# EAGLE library part ADSP-BF524 (library sjg-analog)
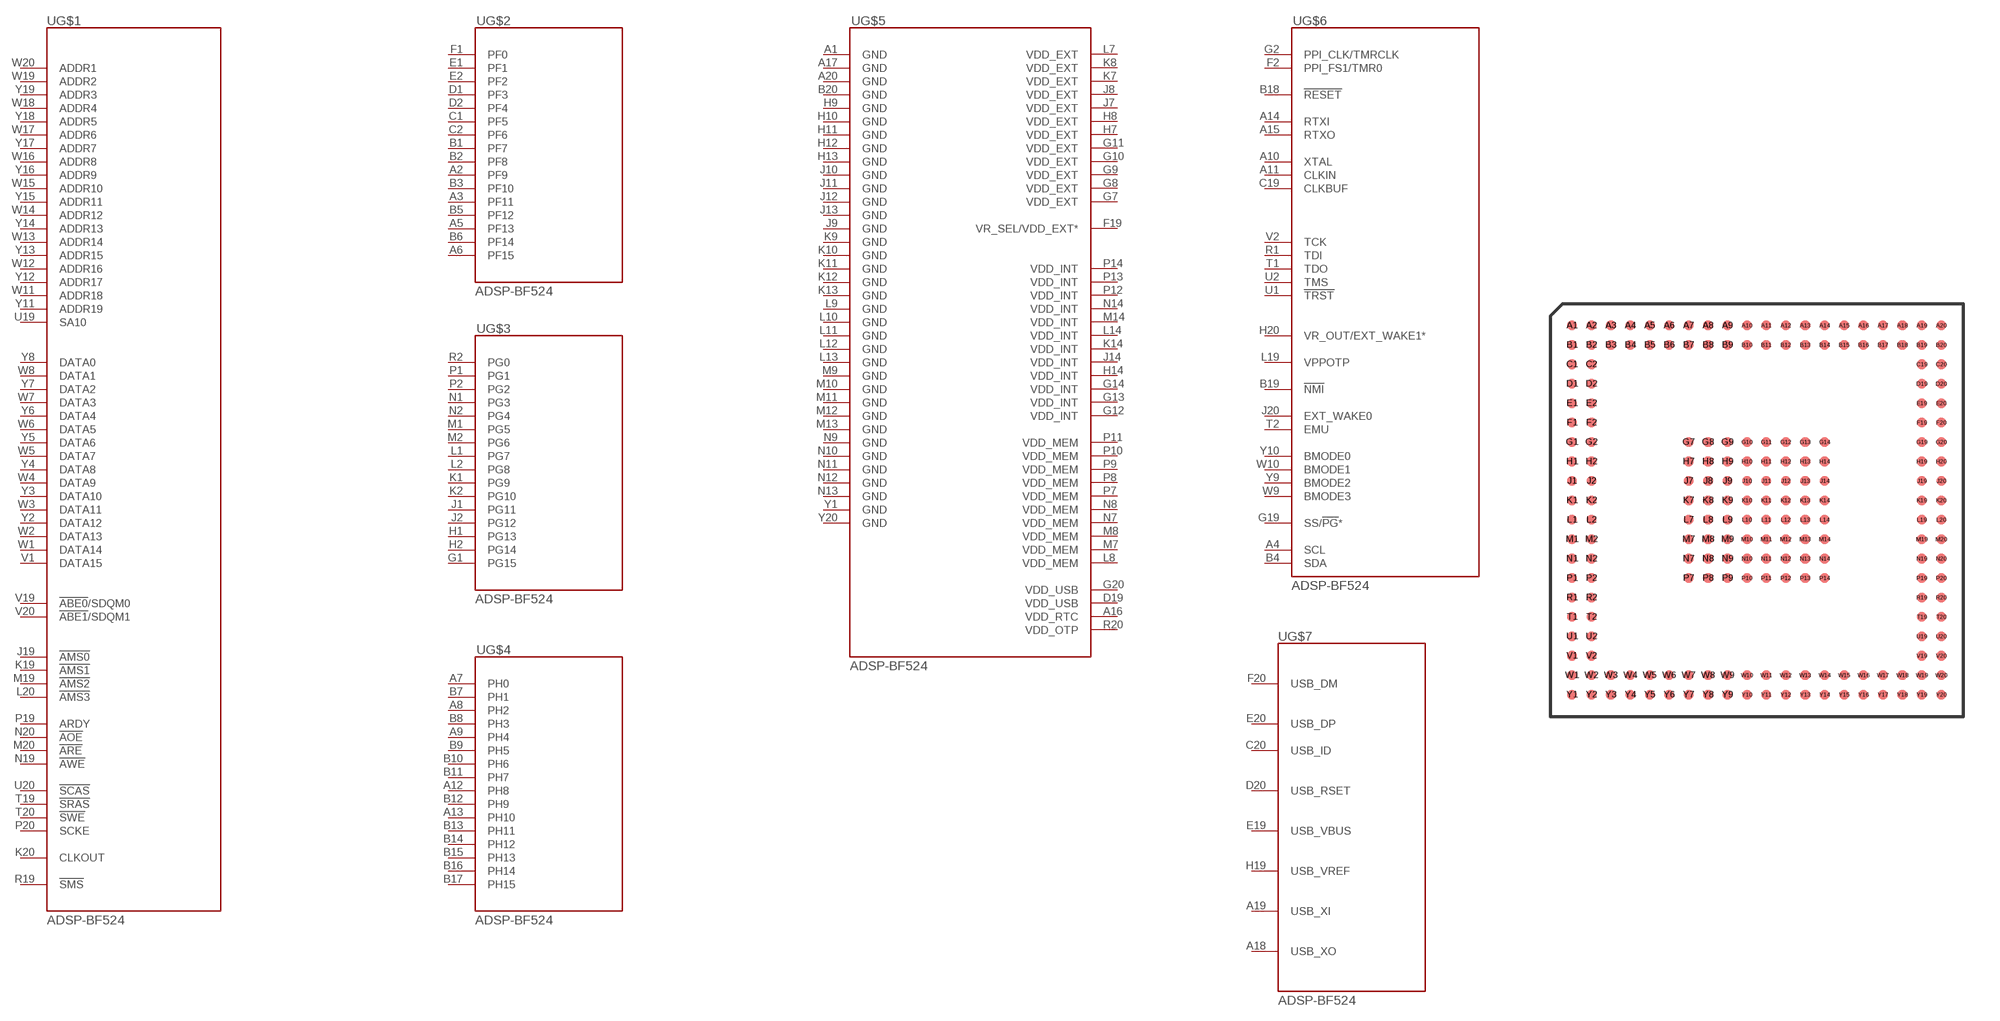
[diagram p2: symbol with the pads of ADSP-BF533; footprint ADSP-BF533]

Designator prefix -; gates G$1=ADSP-BF524-MEM G$2=ADSP-BF524-PORTF G$3=ADSP-BF524-PORTG G$4=ADSP-BF524-PORTH G$5=ADSP-BF524-POWER G$6=ADSP-BF524-SYSTEM G$7=ADSP-BF524-USB

## ADSP-BF524BGA208  [ADSP-BF533]
A1  G$5:GND
A2  G$2:PF9
A3  G$2:PF11
A4  G$6:SCL
A5  G$2:PF13
A6  G$2:PF15
A7  G$4:PH0
A8  G$4:PH2
A9  G$4:PH4
A10  G$6:XTAL
A11  G$6:CLKIN
A12  G$4:PH8
A13  G$4:PH10
A14  G$6:RTXI
A15  G$6:RTXO
A16  G$5:VDD_RTC
A17  G$5:GND
A18  G$7:USB_XO
A19  G$7:USB_XI
A20  G$5:GND
B1  G$2:PF7
B2  G$2:PF8
B3  G$2:PF10
B4  G$6:SDA
B5  G$2:PF12
B6  G$2:PF14
B7  G$4:PH1
B8  G$4:PH3
B9  G$4:PH5
B10  G$4:PH6
B11  G$4:PH7
B12  G$4:PH9
B13  G$4:PH11
B14  G$4:PH12
B15  G$4:PH13
B16  G$4:PH14
B17  G$4:PH15
B18  G$6:!RESET!
B19  G$6:!NMI!
B20  G$5:GND
C1  G$2:PF5
C2  G$2:PF6
C19  G$6:CLKBUF
C20  G$7:USB_ID
D1  G$2:PF3
D2  G$2:PF4
D19  G$5:VDD_USB
D20  G$7:USB_RSET
E1  G$2:PF1
E2  G$2:PF2
E19  G$7:USB_VBUS
E20  G$7:USB_DP
F1  G$2:PF0
F2  G$6:PPI_FS1/TMR0
F19  G$5:VR_SEL/VDD_EXT*
F20  G$7:USB_DM
G1  G$3:PG15
G2  G$6:PPI_CLK/TMRCLK
G7  G$5:VDD_EXT
G8  G$5:VDD_EXT
G9  G$5:VDD_EXT
G10  G$5:VDD_EXT
G11  G$5:VDD_EXT
G12  G$5:VDD_INT
G13  G$5:VDD_INT
G14  G$5:VDD_INT
G19  G$6:SS/!PG!*
G20  G$5:VDD_USB
H1  G$3:PG13
H2  G$3:PG14
H7  G$5:VDD_EXT
H8  G$5:VDD_EXT
H9  G$5:GND
H10  G$5:GND
H11  G$5:GND
H12  G$5:GND
H13  G$5:GND
H14  G$5:VDD_INT
H19  G$7:USB_VREF
H20  G$6:VR_OUT/EXT_WAKE1*
J1  G$3:PG11
J2  G$3:PG12
J7  G$5:VDD_EXT
J8  G$5:VDD_EXT
J9  G$5:GND
J10  G$5:GND
J11  G$5:GND
J12  G$5:GND
J13  G$5:GND
J14  G$5:VDD_INT
J19  G$1:!AMS0!
J20  G$6:EXT_WAKE0
K1  G$3:PG9
K2  G$3:PG10
K7  G$5:VDD_EXT
K8  G$5:VDD_EXT
K9  G$5:GND
K10  G$5:GND
K11  G$5:GND
K12  G$5:GND
K13  G$5:GND
K14  G$5:VDD_INT
K19  G$1:!AMS1!
K20  G$1:CLKOUT
L1  G$3:PG7
L2  G$3:PG8
L7  G$5:VDD_EXT
L8  G$5:VDD_MEM
L9  G$5:GND
L10  G$5:GND
L11  G$5:GND
L12  G$5:GND
L13  G$5:GND
L14  G$5:VDD_INT
L19  G$6:VPPOTP
L20  G$1:!AMS3!
M1  G$3:PG5
M2  G$3:PG6
M7  G$5:VDD_MEM
M8  G$5:VDD_MEM
M9  G$5:GND
M10  G$5:GND
M11  G$5:GND
M12  G$5:GND
M13  G$5:GND
M14  G$5:VDD_INT
M19  G$1:!AMS2!
M20  G$1:!ARE!
N1  G$3:PG3
N2  G$3:PG4
N7  G$5:VDD_MEM
N8  G$5:VDD_MEM
N9  G$5:GND
N10  G$5:GND
N11  G$5:GND
N12  G$5:GND
N13  G$5:GND
N14  G$5:VDD_INT
N19  G$1:!AWE!
N20  G$1:!AOE!
P1  G$3:PG1
P2  G$3:PG2
P7  G$5:VDD_MEM
P8  G$5:VDD_MEM
P9  G$5:VDD_MEM
P10  G$5:VDD_MEM
P11  G$5:VDD_MEM
P12  G$5:VDD_INT
P13  G$5:VDD_INT
P14  G$5:VDD_INT
P19  G$1:ARDY
P20  G$1:SCKE
R1  G$6:TDI
R2  G$3:PG0
R19  G$1:!SMS!
R20  G$5:VDD_OTP
T1  G$6:TDO
T2  G$6:EMU
T19  G$1:!SRAS!
T20  G$1:!SWE!
U1  G$6:!TRST!
U2  G$6:TMS
U19  G$1:SA10
U20  G$1:!SCAS!
V1  G$1:DATA15
V2  G$6:TCK
V19  G$1:!ABE0!/SDQM0
V20  G$1:!ABE1!/SDQM1
W1  G$1:DATA14
W2  G$1:DATA13
W3  G$1:DATA11
W4  G$1:DATA9
W5  G$1:DATA7
W6  G$1:DATA5
W7  G$1:DATA3
W8  G$1:DATA1
W9  G$6:BMODE3
W10  G$6:BMODE1
W11  G$1:ADDR18
W12  G$1:ADDR16
W13  G$1:ADDR14
W14  G$1:ADDR12
W15  G$1:ADDR10
W16  G$1:ADDR8
W17  G$1:ADDR6
W18  G$1:ADDR4
W19  G$1:ADDR2
W20  G$1:ADDR1
Y1  G$5:GND
Y2  G$1:DATA12
Y3  G$1:DATA10
Y4  G$1:DATA8
Y5  G$1:DATA6
Y6  G$1:DATA4
Y7  G$1:DATA2
Y8  G$1:DATA0
Y9  G$6:BMODE2
Y10  G$6:BMODE0
Y11  G$1:ADDR19
Y12  G$1:ADDR17
Y13  G$1:ADDR15
Y14  G$1:ADDR13
Y15  G$1:ADDR11
Y16  G$1:ADDR9
Y17  G$1:ADDR7
Y18  G$1:ADDR5
Y19  G$1:ADDR3
Y20  G$5:GND

## Footprint ADSP-BF533 (pad centres in mm)
smd 0.4 x 0.4: A1 -7.6,7.6; A2 -6.8,7.6; A3 -6,7.6; A4 -5.2,7.6; A5 -4.4,7.6; A6 -3.6,7.6; A7 -2.8,7.6; A8 -2,7.6; A9 -1.2,7.6; A10 -0.4,7.6; A11 0.4,7.6; A12 1.2,7.6; A13 2,7.6; A14 2.8,7.6; A15 3.6,7.6; A16 4.4,7.6; A17 5.2,7.6; A18 6,7.6; A19 6.8,7.6; A20 7.6,7.6; B1 -7.6,6.8; B2 -6.8,6.8; B3 -6,6.8; B4 -5.2,6.8; B5 -4.4,6.8; B6 -3.6,6.8; B7 -2.8,6.8; B8 -2,6.8; B9 -1.2,6.8; B10 -0.4,6.8; B11 0.4,6.8; B12 1.2,6.8; B13 2,6.8; B14 2.8,6.8; B15 3.6,6.8; B16 4.4,6.8; B17 5.2,6.8; B18 6,6.8; B19 6.8,6.8; B20 7.6,6.8; C1 -7.6,6; C2 -6.8,6; C19 6.8,6; C20 7.6,6; D1 -7.6,5.2; D2 -6.8,5.2; D19 6.8,5.2; D20 7.6,5.2; E1 -7.6,4.4; E2 -6.8,4.4; E19 6.8,4.4; E20 7.6,4.4; F1 -7.6,3.6; F2 -6.8,3.6; F19 6.8,3.6; F20 7.6,3.6; G1 -7.6,2.8; G2 -6.8,2.8; G7 -2.8,2.8; G8 -2,2.8; G9 -1.2,2.8; G10 -0.4,2.8; G11 0.4,2.8; G12 1.2,2.8; G13 2,2.8; G14 2.8,2.8; G19 6.8,2.8; G20 7.6,2.8; H1 -7.6,2; H2 -6.8,2; H7 -2.8,2; H8 -2,2; H9 -1.2,2; H10 -0.4,2; H11 0.4,2; H12 1.2,2; H13 2,2; H14 2.8,2; H19 6.8,2; H20 7.6,2; J1 -7.6,1.2; J2 -6.8,1.2; J7 -2.8,1.2; J8 -2,1.2; J9 -1.2,1.2; J10 -0.4,1.2; J11 0.4,1.2; J12 1.2,1.2; J13 2,1.2; J14 2.8,1.2; J19 6.8,1.2; J20 7.6,1.2; K1 -7.6,0.4; K2 -6.8,0.4; K7 -2.8,0.4; K8 -2,0.4; K9 -1.2,0.4; K10 -0.4,0.4; K11 0.4,0.4; K12 1.2,0.4; K13 2,0.4; K14 2.8,0.4; K19 6.8,0.4; K20 7.6,0.4; L1 -7.6,-0.4; L2 -6.8,-0.4; L7 -2.8,-0.4; L8 -2,-0.4; L9 -1.2,-0.4; L10 -0.4,-0.4; L11 0.4,-0.4; L12 1.2,-0.4; L13 2,-0.4; L14 2.8,-0.4; L19 6.8,-0.4; L20 7.6,-0.4; M1 -7.6,-1.2; M2 -6.8,-1.2; M7 -2.8,-1.2; M8 -2,-1.2; M9 -1.2,-1.2; M10 -0.4,-1.2; M11 0.4,-1.2; M12 1.2,-1.2; M13 2,-1.2; M14 2.8,-1.2; M19 6.8,-1.2; M20 7.6,-1.2; N1 -7.6,-2; N2 -6.8,-2; N7 -2.8,-2; N8 -2,-2; N9 -1.2,-2; N10 -0.4,-2; N11 0.4,-2; N12 1.2,-2; N13 2,-2; N14 2.8,-2; N19 6.8,-2; N20 7.6,-2; P1 -7.6,-2.8; P2 -6.8,-2.8; P7 -2.8,-2.8; P8 -2,-2.8; P9 -1.2,-2.8; P10 -0.4,-2.8; P11 0.4,-2.8; P12 1.2,-2.8; P13 2,-2.8; P14 2.8,-2.8; P19 6.8,-2.8; P20 7.6,-2.8; R1 -7.6,-3.6; R2 -6.8,-3.6; R19 6.8,-3.6; R20 7.6,-3.6; T1 -7.6,-4.4; T2 -6.8,-4.4; T19 6.8,-4.4; T20 7.6,-4.4; U1 -7.6,-5.2; U2 -6.8,-5.2; U19 6.8,-5.2; U20 7.6,-5.2; V1 -7.6,-6; V2 -6.8,-6; V19 6.8,-6; V20 7.6,-6; W1 -7.6,-6.8; W2 -6.8,-6.8; W3 -6,-6.8; W4 -5.2,-6.8; W5 -4.4,-6.8; W6 -3.6,-6.8; W7 -2.8,-6.8; W8 -2,-6.8; W9 -1.2,-6.8; W10 -0.4,-6.8; W11 0.4,-6.8; W12 1.2,-6.8; W13 2,-6.8; W14 2.8,-6.8; W15 3.6,-6.8; W16 4.4,-6.8; W17 5.2,-6.8; W18 6,-6.8; W19 6.8,-6.8; W20 7.6,-6.8; Y1 -7.6,-7.6; Y2 -6.8,-7.6; Y3 -6,-7.6; Y4 -5.2,-7.6; Y5 -4.4,-7.6; Y6 -3.6,-7.6; Y7 -2.8,-7.6; Y8 -2,-7.6; Y9 -1.2,-7.6; Y10 -0.4,-7.6; Y11 0.4,-7.6; Y12 1.2,-7.6; Y13 2,-7.6; Y14 2.8,-7.6; Y15 3.6,-7.6; Y16 4.4,-7.6; Y17 5.2,-7.6; Y18 6,-7.6; Y19 6.8,-7.6; Y20 7.6,-7.6